# Altium footprint library PCB - LEADLESS - QFN - ONSEMI 10-WQFN (1P4x1P8MM).PCBLIB: 1 footprints
Each footprint in its own frame and in the unit in brackets; x right, y up, seen from the top. Pads: shape width x height; smd on the part's side, far side on the other; paste and mask are expansions set on the pad; w line width, h text height; cw(c..) or ccw(c..) is an arc to the next point about the centre after c.
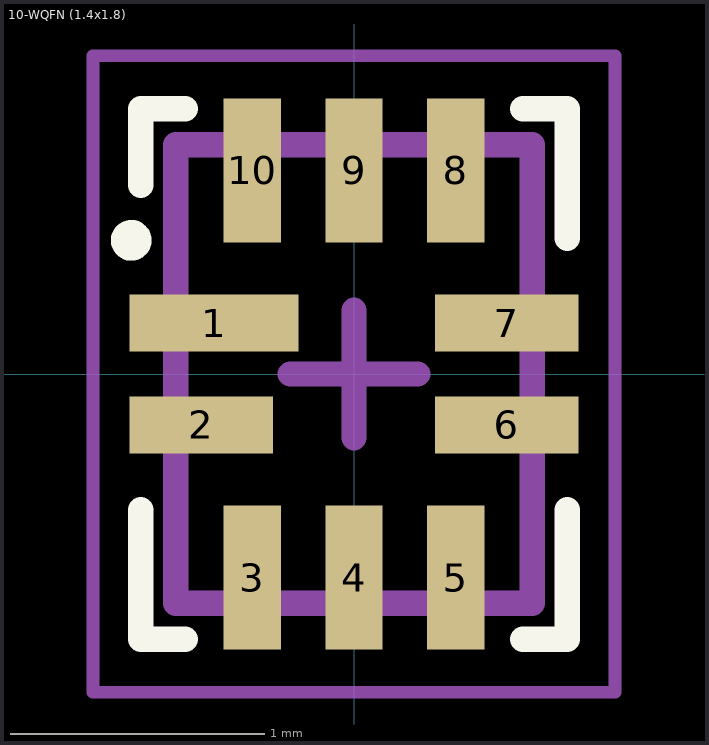
[diagram p0: the footprint, top view; thin cyan lines are the x and y axes]

## 10-WQFN (1.4x1.8) [mm] "QFN, 10-Leads, Body 1.40x1.80mm, Pitch 0.40mm, IPC Medium Density"
height 0.8
pads (10):
  rect 0.665x0.225 smd mask+0.05: 1(-0.55,0.2)
  rect 0.565x0.225 smd mask+0.05: 2(-0.6,-0.2) 6(0.6,-0.2) 7(0.6,0.2)
  rect 0.225x0.565 smd mask+0.05: 3(-0.4,-0.8) 4(0,-0.8) 5(0.4,-0.8) 8(0.4,0.8) 9(0,0.8) 10(-0.4,0.8)
Top Overlay:
  circle w0.08: c-0.875,0.525 r0.04
  lines w0.1: -0.838,-0.533 -0.838,-1.041 -0.663,-1.041 ; -0.838,0.741 -0.838,1.041 -0.663,1.041 ; 0.663,-1.041 0.838,-1.041 0.838,-0.533 ; 0.663,1.041 0.838,1.041 0.838,0.533
Mechanical 13:
  lines w0.1: -0.7,-0.9 0.7,-0.9 0.7,0.9 -0.7,0.9 -0.7,-0.9
Mechanical 15:
  lines w0.05: -1.025,-1.25 1.025,-1.25 1.025,1.25 -1.025,1.25 -1.025,-1.25
  lines w0.1: -0.25,0 0.25,0 ; 0,-0.25 0,0.25
3D body "QFN40P140X180X80-10N.step": height 0.8, standoff 0, extent -0.701,-0.901 0.701,0.901